# EAGLE library part PINHD-1X8 (library Connectors)
PIN HEADER
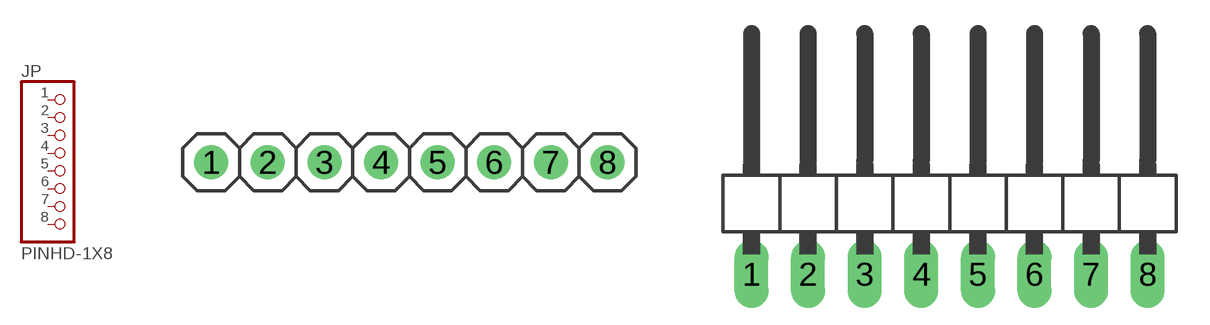
[diagram p0: symbol with the pads of 1X08; footprints 1X08, 1X08/90]

Designator prefix JP

## PINHD-1X8RH  [1X08]
1  1  pas
2  2  pas
3  3  pas
4  4  pas
5  5  pas
6  6  pas
7  7  pas
8  8  pas

## PINHD-1X890RH  [1X08/90]
Pads as for 1X08

## PINHD-1X8BB250  [1X08B250]
Pads as for 1X08

## PINHD-1X8RHK  [1X08K]
Pads as for 1X08

## PINHD-1X8SMD  [1X08_SM]
Pads as for 1X08

## Footprint 1X08 (pad centres in mm)
PIN HEADER
drill 1.016: 1 -8.89,0; 2 -6.35,0; 3 -3.81,0; 4 -1.27,0; 5 1.27,0; 6 3.81,0; 7 6.35,0; 8 8.89,0

## Footprint 1X08/90 (pad centres in mm)
PIN HEADER
drill 1.016 long: 1 -8.89,-3.81; 2 -6.35,-3.81; 3 -3.81,-3.81; 4 -1.27,-3.81; 5 1.27,-3.81; 6 3.81,-3.81; 7 6.35,-3.81; 8 8.89,-3.81

## Footprint 1X08B250 (pad centres in mm)
drill 1.854: 1 -22.225,0; 2 -15.875,0; 3 -9.525,0; 4 -3.175,0; 5 3.175,0; 6 9.525,0; 7 15.875,0; 8 22.225,0

## Footprint 1X08K (pad centres in mm)
drill 1.016 pad 1.88: 1 -8.89,0.127; 2 -6.35,-0.127; 3 -3.81,0.127; 4 -1.27,-0.127; 5 1.27,0.127; 6 3.81,-0.127; 7 6.35,0.127; 8 8.89,-0.127

## Footprint 1X08_SM (pad centres in mm)
smd 4.064 x 1.905: 1 0,8.89; 2 0,6.35; 3 0,3.81; 4 0,1.27; 5 0,-1.27; 6 0,-3.81; 7 0,-6.35; 8 0,-8.89